# EAGLE library part FS3000-* (library bschulz)
FS300-10x5 - Air Velocity Sensor Module Characteristics: VCC: 3.3~5V Operating Temperature: -40°C to 85°C Flow Range: 0 ~ 7.23/15 m/s (1005 vs 1015) Resolution: 12 bit Digikey: FS3000-1015 <https://www.digikey.com/en/products/detail/renesas-electronics-america-inc/FS3000-1015/14555470> Package based on Sparkfun design for FS3000 <https://github.com/sparkfun/SparkFun_Air_Velocity_Sensor_FS3000_Qwiic>
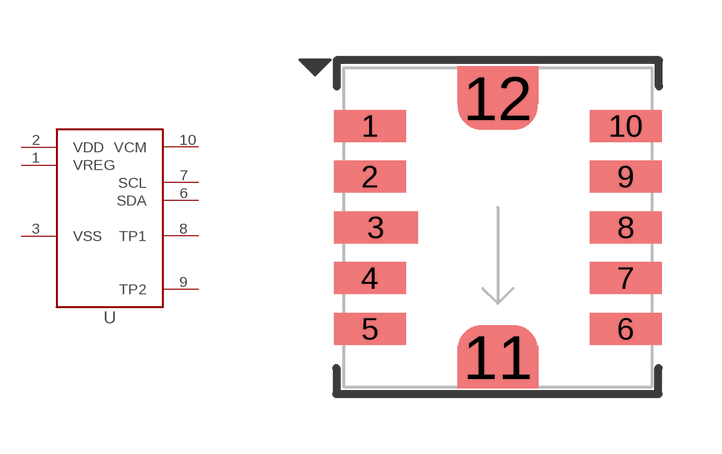
[diagram p179: symbol with the pads of FS3000; footprint FS3000]

Designator prefix U

## FS3000- (DISP: FS3000-xxxx; MF: Renesas), FS3000-1005 (DIGIKEY: 800-FS3000-1005CT-ND; DISP: FS3000-1005; MF: Renesas; MPN: FS3000-1005), FS3000-1015 (DIGIKEY: 800-FS3000-1015CT-ND; DISP: FS3000-1015; MF: Renesas; MPN: FS3000-1015)  [FS3000]
1  VREG  in
2  VDD  pwr
3  VSS  pwr
6  SDA
7  SCL  in
8  TP1
9  TP2
10  VCM  out

## Footprint FS3000 (pad centres in mm)
FS3000 Datasheet <https://www.renesas.com/us/en/document/dst/fs3000-datasheet?r=1395551>
smd 1.8 x 0.8: 1 -3.2,2.54; 2 -3.2,1.27; 4 -3.2,-1.27; 5 -3.2,-2.54; 6 3.2,-2.54; 7 3.2,-1.27; 8 3.2,0; 9 3.2,1.27; 10 3.2,2.54
smd 2.1 x 0.8: 3 -3.05,0
smd 2 x 1.59: 11 0,-3.24; 12 0,3.24